# EAGLE library part HMC5883L-TR (library HMC5883L-TR)
HONEYWELL - HMC5883L-TR - IC, DIGITAL COMPASS, 3 AXIS, 16 PIN Source: Datasheet <https://componentsearchengine.com/Datasheets/2/HMC5883L-TR.pdf>
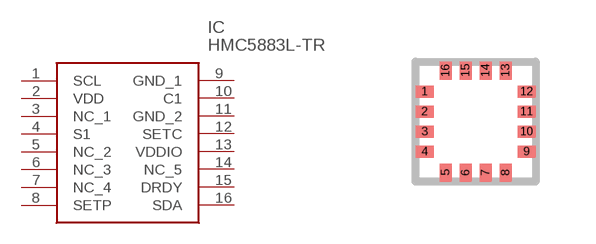
[diagram p0: symbol with the pads of 16-PIN-LPCC; footprint 16-PIN-LPCC]

Designator prefix IC

## HMC5883L-TR (Description: HONEYWELL - HMC5883L-TR - IC, DIGITAL COMPASS, 3 AXIS, 16 PIN; Farnell_Part_Number: 1971743; Height: mm; Manufacturer_Name: Honeywell; Manufacturer_Part_Number: HMC5883L-TR)  [16-PIN-LPCC]
1  SCL
2  VDD
3  NC_1
4  S1
5  NC_2
6  NC_3
7  NC_4
8  SETP
9  GND_1
10  C1
11  GND_2
12  SETC
13  VDDIO
14  NC_5
15  DRDY
16  SDA

## Footprint 16-PIN-LPCC (pad centres in mm)
16-PIN-LPCC
smd 0.45 x 0.3: 1 -1.275,0.75; 2 -1.275,0.25; 3 -1.275,-0.25; 4 -1.275,-0.75; 9 1.275,-0.75; 10 1.275,-0.25; 11 1.275,0.25; 12 1.275,0.75
smd 0.3 x 0.45: 5 -0.75,-1.275; 6 -0.25,-1.275; 7 0.25,-1.275; 8 0.75,-1.275; 13 0.75,1.275; 14 0.25,1.275; 15 -0.25,1.275; 16 -0.75,1.275